# Altium schematic symbol library MinidisplayPort.SchLib: 2 symbols
Pins are listed as number, name and electrical type; pins without a type are passive.

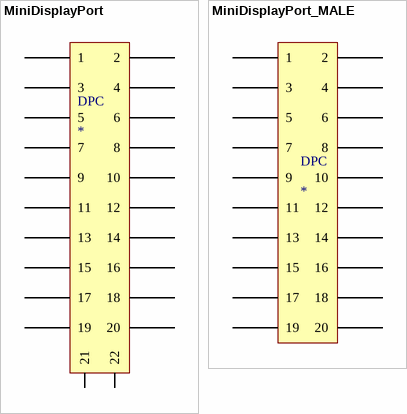
[diagram p0: symbols MiniDisplayPort to MiniDisplayPort_MALE]

## MiniDisplayPort
designator DPC
minidisplayport; Manufacturer 1: Jameco; Supplier 1: Jameco; Supplier Part Number: mdpC-s-ra
footprint Mdp
pins: 1, 2, 3, 4, 5, 6, 7, 8, 9, 10, 11, 12, 13, 14, 15, 16, 17, 18, 19, 20, 21, 22

## MiniDisplayPort_MALE
designator DPC
minidisplayport_MALE; Manufacturer 1: Jameco; Manufacturer Part Number: mdpC-s-ra; Supplier 1: *; Supplier Part Number 1: *
footprint Mdp - male
pins: 1, 2, 3, 4, 5, 6, 7, 8, 9, 10, 11, 12, 13, 14, 15, 16, 17, 18, 19, 20